# Altium schematic symbol library st7789.SchLib: 1 symbol
Pins are listed as number, name and electrical type; pins without a type are passive.

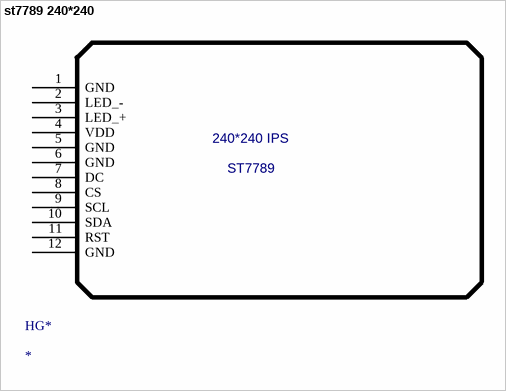
[diagram p0: symbol st7789 240*240]

## st7789 240*240
designator HG*
footprint PCBComponent_1
pins: 1 GND, 2 LED_-, 3 LED_+, 4 VDD, 5 GND, 6 GND, 7 DC, 8 CS, 9 SCL, 10 SDA, 11 RST, 12 GND
text: 240*240 IPS; ST7789